# EAGLE library part CK1050_2X6 (library #PaJa_prepinace)
Otocny prepinac 2 x 6
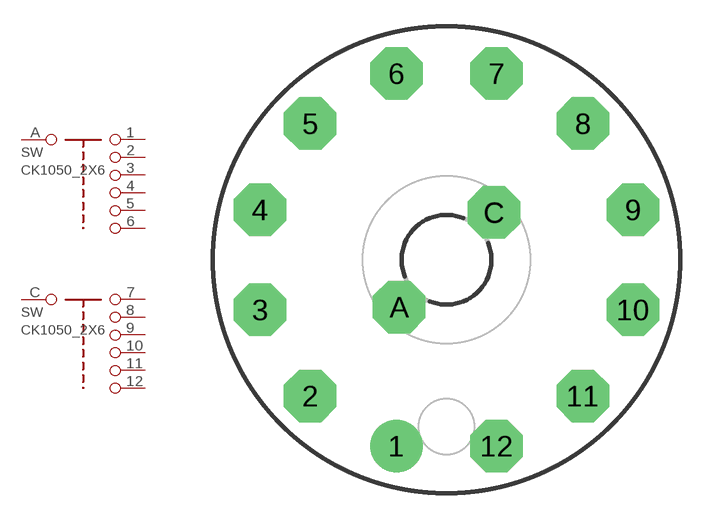
[diagram p0: symbol with the pads of SWITCH2X6; footprint SWITCH2X6]

Designator prefix SW; gates A=CK_6X C=CK_6X

## CK1050_2X6  [SWITCH2X6]
1  A:1  pas
2  A:2  pas
3  A:3  pas
4  A:4  pas
5  A:5  pas
6  A:6  pas
7  C:1  pas
8  C:2  pas
9  C:3  pas
10  C:4  pas
11  C:5  pas
12  C:6  pas
A  A:A  pas
C  C:A  pas

## Footprint SWITCH2X6 (pad centres in mm)
drill 1.5 pad 3 round: 1 -2.857,-10.636
drill 1.5 pad 3 octagon: 2 -7.779,-7.779; 3 -10.636,-2.857; 4 -10.636,2.857; 5 -7.779,7.779; 6 -2.857,10.636; 7 2.857,10.636; 8 7.779,7.779; 9 10.636,2.857; 10 10.636,-2.857; 11 7.779,-7.779; 12 2.857,-10.636; A -2.699,-2.699; C 2.699,2.699